# Altium footprint library 47272-0001.PcbLib: 1 footprints
Each footprint in its own frame and in the unit in brackets; x right, y up, seen from the top. Pads: shape width x height; smd on the part's side, far side on the other; paste and mask are expansions set on the pad; w line width, h text height; cw(c..) or ccw(c..) is an arc to the next point about the centre after c.
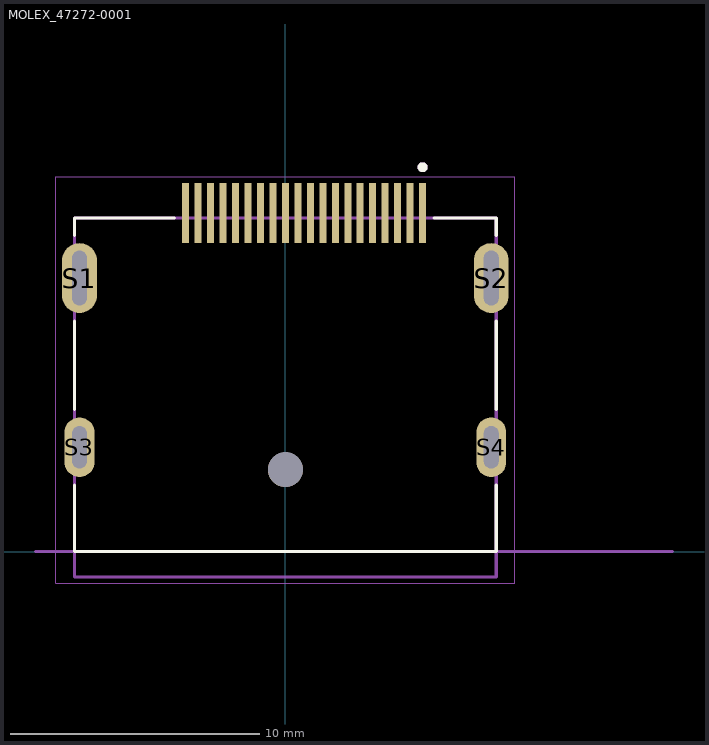
[diagram p0: the footprint, top view; thin cyan lines are the x and y axes]

## MOLEX_47272-0001 [mm]
pads (25):
  rect 0.28x2.4 smd: 1(5.5,13.56) 2(5,13.56) 3(4.5,13.56) 4(4,13.56) 5(3.5,13.56) 6(3,13.56) 7(2.5,13.56) 8(2,13.56) 9(1.5,13.56) 10(1,13.56) 11(0.5,13.56) 12(0,13.56) 13(-0.5,13.56) 14(-1,13.56) 15(-1.5,13.56) 16(-2,13.56) 17(-2.5,13.56) 18(-3,13.56) 19(-3.5,13.56) 20(-4,13.56)
  oval 1.4x2.8 hole 0.6 slot 2.2 at 90 deg: S1(-8.25,10.96) S2(8.25,10.96)
  oval 1.2x2.4 hole 0.6 slot 1.7 at 90 deg: S3(-8.25,4.18) S4(8.25,4.18)
  round 1.4 hole 1.4 unplated: ""(0,3.28)
Top Overlay:
  circle w0.2: c5.5,15.4 r0.1
  lines w0.127: -8.45,2.66 -8.45,0 8.45,0 8.45,2.66 ; -8.45,5.69 -8.45,9.24 ; -8.45,12.67 -8.45,13.37 -4.45,13.37 ; 5.95,13.37 8.45,13.37 8.45,12.67 ; 8.45,5.69 8.45,9.24
Mechanical 13:
  circle w0.2: c5.5,15.4 r0.1
  lines w0.127: -10,0 15.5,0 ; -8.45,-1.02 8.45,-1.02 8.45,13.37 -8.45,13.37 -8.45,-1.02
  text "PCB EDGE" at 9.47,0.13 h0.81
Mechanical 15:
  lines w0.05: -9.2,-1.27 9.2,-1.27 9.2,15.01 -9.2,15.01 -9.2,-1.27